# Altium footprint library Template_Footprint.PcbLib: 1 footprints
Each footprint in its own frame and in the unit in brackets; x right, y up, seen from the top. Pads: shape width x height; smd on the part's side, far side on the other; paste and mask are expansions set on the pad; w line width, h text height; cw(c..) or ccw(c..) is an arc to the next point about the centre after c.
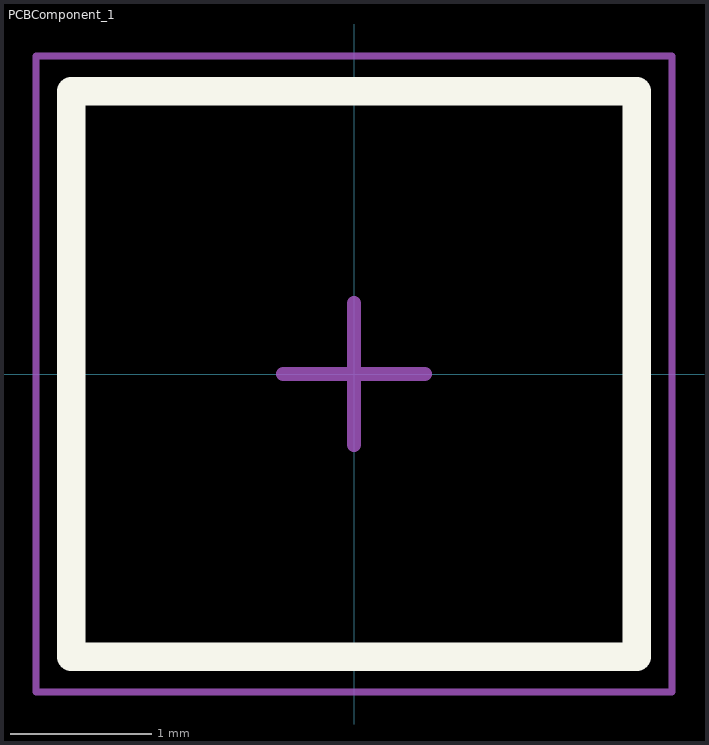
[diagram p0: the footprint, top view; thin cyan lines are the x and y axes]

## PCBComponent_1 [mm]
Top Overlay:
  lines w0.2: -2,-2 -2,2 2,2 2,-2 -2,-2
Top Assembly:
  lines w0.1: -2,-2 2,-2 2,2 -2,2 -2,-2
  text ".Designator" at -7.747,-1.27 h1.27
Top Courtyard:
  lines w0.05: -2.25,-2.25 2.25,-2.25 2.25,2.25 -2.25,2.25 -2.25,-2.25
  lines w0.1: -0.5,0 0.5,0 ; 0,-0.5 0,0.5